# Altium integrated library Diodes Incorporated Single LDOs.IntLib: 1 symbol
Pins are listed as number, name and electrical type; pins without a type are passive.

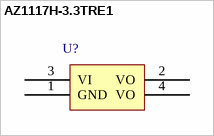
[diagram p0: symbol AZ1117H-3.3TRE1]

## AZ1117H-3.3TRE1
designator U?
Linear Voltage Regulator IC Positive Fixed 1 Output 3.3V 1A SOT-223; Manufacturer: Diodes Incorporated; PartNumber: AZ1117H-3.3TRE1; Package: SOT-223; PackageDescription: Small Outine Transistor 3 Leads and 1 Tab; Supplier 1: Digi-Key; Supplier Part Number 1: AZ1117H-3.3TRE1DITR-ND
footprint SOT230P700X170-4L (SOT223, 4-Leads, Body 6.7x7.3mm (max), Pitch 2.30mm, IPC High Density)
footprint SOT230P700X170-4M (SOT223, 4-Leads, Body 6.7x7.3mm (max), Pitch 2.30mm, IPC Low Density)
footprint SOT230P700X170-4N (SOT223, 4-Leads, Body 6.7x7.3mm (max), Pitch 2.30mm, IPC Medium Density)
pins: 1 GND, 2 VO, 3 VI, 4 VO